# EAGLE library part 62001011821 (library Wurth_Elektronik_Electromechanic_Board_to_Board_Connectors_rev16a)
WR-PHD 2.00mm Socket Header, 10 Pins=>Code : Con_BTB_SHD_2.00_1_THT_62001011821 <http://katalog.we-online.de/media/thumbs2/eican/thb_Con_BTB_SHD_2.00_1_THT_6200xx11821_pf2.jpg> Details see: http://katalog.we-online.de/en/em/620_0xx_118_21 Created 2014-06-03, Karrer Zheng 2014 (C) Würth Elektronik
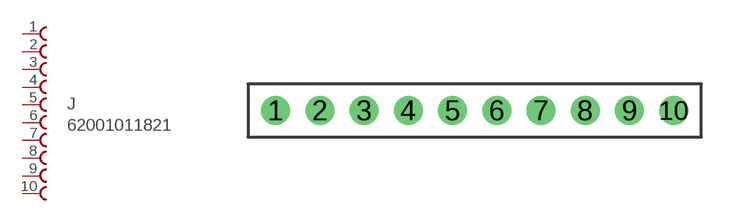
[diagram p253: symbol with the pads of 62001011821; footprint 62001011821]

Designator prefix J

## 62001011821  [62001011821]
1  1  pas
2  2  pas
3  3  pas
4  4  pas
5  5  pas
6  6  pas
7  7  pas
8  8  pas
9  9  pas
10  10  pas

## Footprint 62001011821 (pad centres in mm)
WR-PHD 2.00mm Socket Header, 10 Pins
drill 0.8: 1 -9,0; 2 -7,0; 3 -5,0; 4 -3,0; 5 -1,0; 6 1,0; 7 3,0; 8 5,0; 9 7,0; 10 9,0